# Altium schematic symbol library Miscellaneous.SchLib: 57 symbols
Pins are listed as number, name and electrical type; pins without a type are passive.

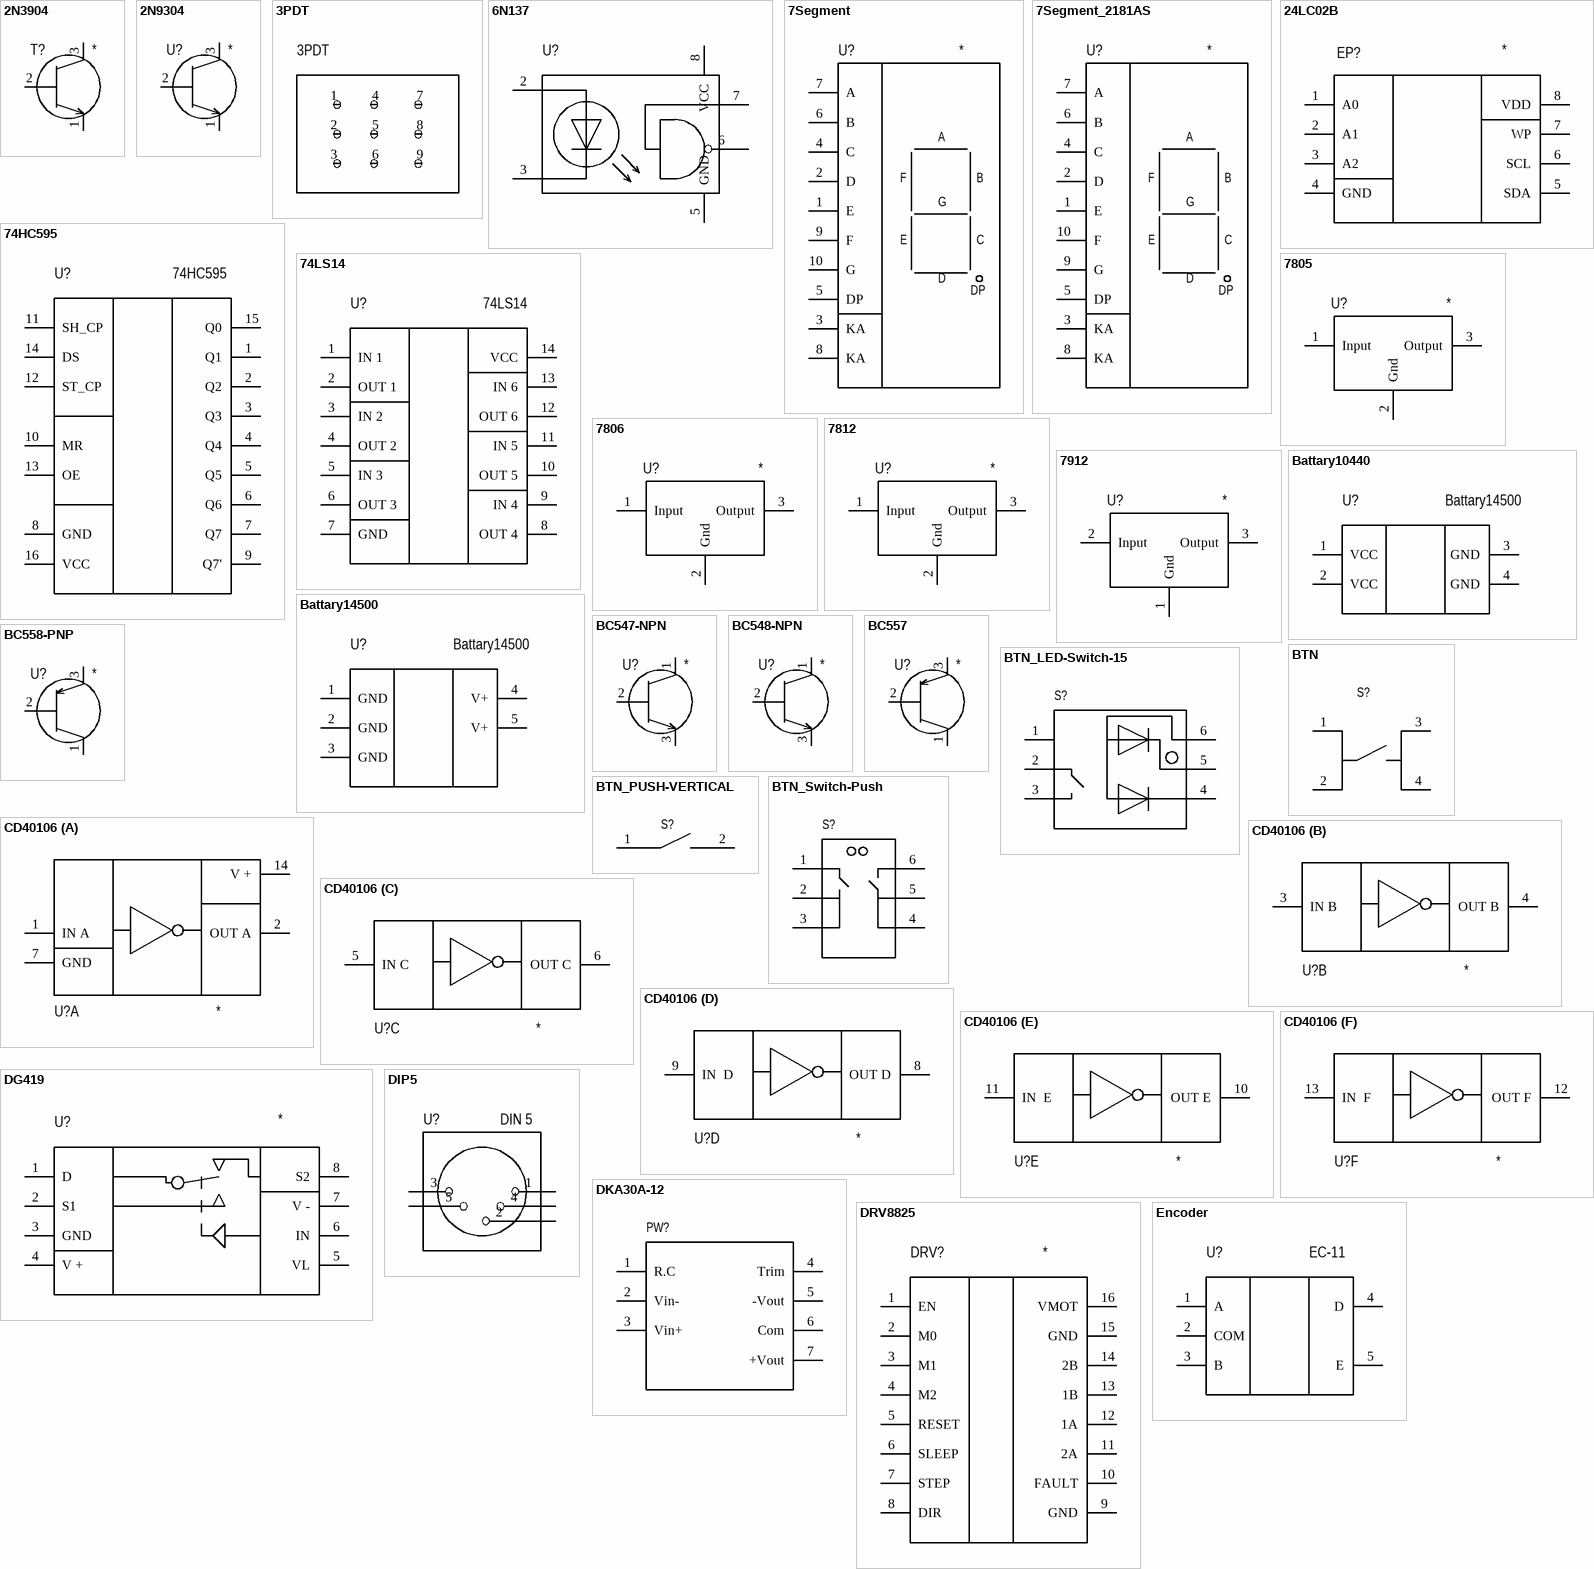
[diagram p0: symbols 2N3904 to Encoder]

## 2N3904
designator T?
Value: *
footprint TO-92 - NEW
pins: 1 E, 2 B, 3 C

## 2N9304
designator U?
Value: *
footprint TO-92
pins: 1 E, 2 B, 3 C

## 3PDT
designator 3PDT  (value not drawn)
footprint 3PDT
pins: 1 Gate, 2 Gate, 3 CV, 4 CV, 5 +5V, 6 +5V, 7 +12V, 8 +12V, 9 0V

## 6N137
designator U?
Value: 6N137
footprint DIP_8
pins: 2, 3, 5 GND, 6, 7, 8 VCC

## 7Segment
designator U?
Value: *
footprint 7Seg_5161AS
pins: 1 E, 2 D, 3 KA, 4 C, 5 DP, 6 B, 7 A, 8 KA, 9 F, 10 G

## 7Segment_2181AS
designator U?
Value: *
footprint 7SEG_2181AS
pins: 1 E, 2 D, 3 KA, 4 C, 5 DP, 6 B, 7 A, 8 KA, 9 G, 10 F

## 24LC02B
designator EP?
Value: *
footprint DIP_8
footprint SO-8
pins: 1 A0, 2 A1, 3 A2, 4 GND, 5 SDA, 6 SCL, 7 WP, 8 VDD

## 74HC595
designator U?
footprint SO-16
footprint SO-16 - bottom
pins: 1 Q1, 2 Q2, 3 Q3, 4 Q4, 5 Q5, 6 Q6, 7 Q7, 8 GND, 9 Q7', 10 MR, 11 SH_CP, 12 ST_CP, 13 OE, 14 DS, 15 Q0, 16 VCC

## 74LS14
designator U?
Value: 74LS14
footprint DIP_14
footprint DIP_14 - PANEL
pins: 1 IN 1, 2 OUT 1, 3 IN 2, 4 OUT 2, 5 IN 3, 6 OUT 3, 7 GND, 8 OUT 4, 9 IN 4, 10 OUT 5, 11 IN 5, 12 OUT 6, 13 IN 6, 14 VCC

## 7805
designator U?
Value: *
footprint 7805_hor_rad
footprint SOT-89
footprint SOT-89 - BOTTOM
footprint TO-252AA
footprint TO-252AA - BOTTOM
pins: 1 Input, 2 Gnd, 3 Output

## 7806
designator U?
Value: *
footprint TO-220RADUATOR
pins: 1 Input, 2 Gnd, 3 Output

## 7812
designator U?
Value: *
footprint 7812_hor_rad
footprint 7812_hor_rad - h20
pins: 1 Input, 2 Gnd, 3 Output

## 7912
designator U?
Value: *
footprint 7812_hor_rad
footprint 7812_hor_rad - h20
pins: 1 Gnd, 2 Input, 3 Output

## Battary10440
designator U?, comment Battary14500
Value: Battary14500
footprint Battary10440PLS
footprint Battary10440PLS-MIN
pins: 1 VCC, 2 VCC, 3 GND, 4 GND

## Battary14500
designator U?
Value: Battary14500
footprint Battary14500PLS
pins: 1 GND, 2 GND, 3 GND, 4 V+, 5 V+

## BC547-NPN
designator U?
Value: *
footprint TO-92 - NEW
pins: 1 C, 2 B, 3 E

## BC548-NPN
designator U?
Value: *
footprint TO-92 - NEW
pins: 1 C, 2 B, 3 E

## BC557
designator U?
Value: *
footprint TO-92 - NEW
pins: 1 E, 2 B, 3 C

## BC558-PNP
designator U?
Value: *
footprint TO-92 - NEW
pins: 1 E, 2 B, 3 C

## BTN
designator S?  (value not drawn)
footprint BUTTON-DIP
footprint BUTTON-DIP12-12_10mm
footprint BUTTON-DIP12-12_15mm
pins: 1, 2 1, 3 1, 4 1

## BTN_LED-Switch-15
designator S?  (value not drawn)
footprint LED-SWITCH-15
pins: 1, 2 1, 3 1, 4 1, 5 1, 6 1

## BTN_PUSH-VERTICAL
designator S?  (value not drawn)
footprint BUTTON-DIP-VERTICAL
pins: 1, 2 1

## BTN_Switch-Push
designator S?  (value not drawn)
footprint BUTTON-DIP-PUSH
footprint BUTTON-DIP-PUSH-CAP
pins: 1, 2 1, 3 1, 4 1, 5 1, 6 1

## CD40106
designator U?
Value: *
footprint DIP_14
footprint SO-14
part A pins: 1 IN A, 2 OUT A, 7 GND, 14 V +
part B pins: 3 IN B, 4 OUT B
part C pins: 5 IN С, 6 OUT С
part D pins: 8 OUT D, 9 IN  D
part E pins: 10 OUT E, 11 IN  E
part F pins: 12 OUT F, 13 IN  F

## DG419
designator U?
Value: *
footprint DIP_8
footprint SO-8
pins: 1 D, 2 S1, 3 GND, 4 V +, 5 VL, 6 IN, 7 V -, 8 S2

## DIP5
designator U?, comment DIN 5
Value: DIN 5
footprint Din_5
pins: 1 6, 2 4, 3 8, 4 5, 5 7

## DKA30A-12
designator PW?  (value not drawn)
footprint DKA30A-12
pins: 1 R.C, 2 Vin-, 3 Vin+, 4 Trim, 5 -Vout, 6 Com, 7 +Vout

## DRV8825
designator DRV?
Value: *
footprint DRV8825
pins: 1 EN, 2 M0, 3 M1, 4 M2, 5 RESET, 6 SLEEP, 7 STEP, 8 DIR, 9 GND, 10 FAULT, 11 2A, 12 1A, 13 1B, 14 2B, 15 GND, 16 VMOT

## Encoder
designator U?, comment EC-11
VAlue: EC-11
footprint ENCODER
footprint ENCODER2
pins: 1 A, 2 COM, 3 B, 4 D, 5 E

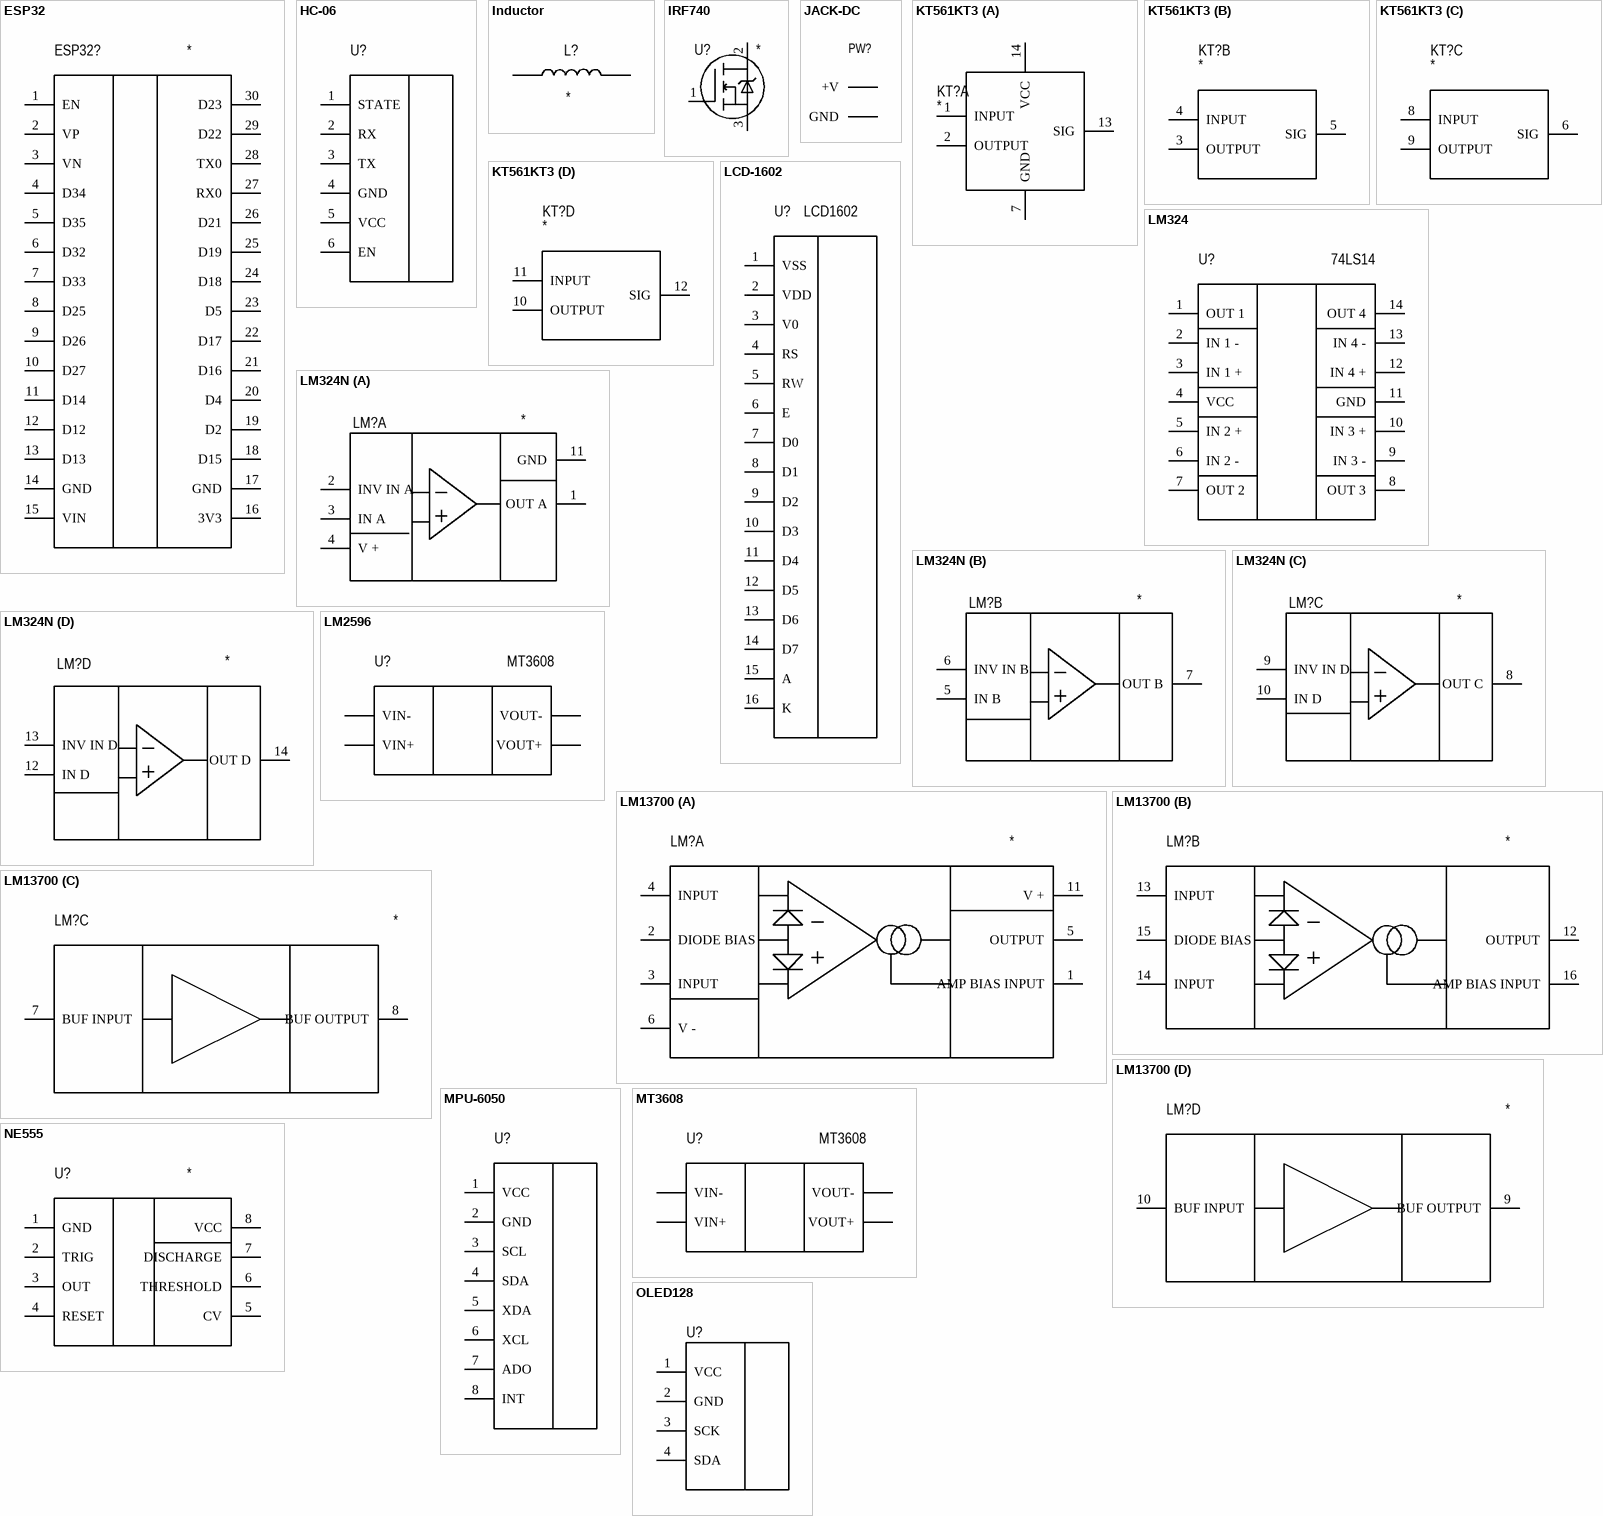
[diagram p1: symbols ESP32 to OLED128]

## ESP32
designator ESP32?
Value: *
footprint ESP32
pins: 1 EN, 2 VP, 3 VN, 4 D34, 5 D35, 6 D32, 7 D33, 8 D25, 9 D26, 10 D27, 11 D14, 12 D12, 13 D13, 14 GND, 15 VIN, 16 3V3, 17 GND, 18 D15, 19 D2, 20 D4, 21 D16, 22 D17, 23 D5, 24 D18, 25 D19, 26 D21, 27 RX0, 28 TX0, 29 D22, 30 D23

## HC-06
designator U?  (value not drawn)
footprint HC-06
pins: 1 STATE, 2 RX, 3 TX, 4 GND, 5 VCC, 6 EN

## Inductor
designator L?
Value: *; Manufacture: *; Case: *; Model: *; HelpURL: *
footprint Inductor-D8-H11-P5
footprint Inductor-SMD-12_7
pins: 1, 2

## IRF740
designator U?
Value: *
footprint TO-220AB
pins: 1 G, 2 D, 3 S

## JACK-DC
designator PW?  (value not drawn)
footprint JACK-DC
pins: 1 +V, 2 GND

## KT561KT3
designator KT?
Value: *
footprint DIP_14
footprint SO-14
footprint DIP_14 - PANEL
part A pins: 1 INPUT, 2 OUTPUT, 7 GND, 13 SIG, 14 VCC
part B pins: 3 OUTPUT, 4 INPUT, 5 SIG
part C pins: 6 SIG, 8 INPUT, 9 OUTPUT
part D pins: 10 OUTPUT, 11 INPUT, 12 SIG

## LCD-1602
designator U?, comment LCD1602
Value: LCD1602
footprint LCD-1602_PBS
pins: 1 VSS, 2 VDD, 3 V0, 4 RS, 5 RW, 6 E, 7 D0, 8 D1, 9 D2, 10 D3, 11 D4, 12 D5, 13 D6, 14 D7, 15 A, 16 K

## LM324
designator U?, comment 74LS14
Value: 74LS14
footprint SO-14
footprint SO-14 - Bottom
pins: 1 OUT 1, 2 IN 1 -, 3 IN 1 +, 4 VCC, 5 IN 2 +, 6 IN 2 -, 7 OUT 2, 8 OUT 3, 9 IN 3 -, 10 IN 3 +, 11 GND, 12 IN 4 +, 13 IN 4 -, 14 OUT 4

## LM324N
designator LM?
Value: *
footprint DIP_14
footprint SO-14
part A pins: 1 OUT A, 2 INV IN A, 3 IN A, 4 V +, 11 GND
part B pins: 5 IN B, 6 INV IN B, 7 OUT B
part C pins: 8 OUT C, 9 INV IN D, 10 IN D
part D pins: 12 IN D, 13 INV IN D, 14 OUT D

## LM2596
designator U?, comment MT3608
Value: MT3608
footprint LM2596
pins: 1 VIN+, 2 VIN-, 3 VOUT-, 4 VOUT+

## LM13700
designator LM?
Value: *
footprint SO-16
part A pins: 1 AMP BIAS INPUT, 2 DIODE BIAS, 3 INPUT, 4 INPUT, 5 OUTPUT, 6 V -, 11 V +
part B pins: 12 OUTPUT, 13 INPUT, 14 INPUT, 15 DIODE BIAS, 16 AMP BIAS INPUT
part C pins: 7 BUF INPUT, 8 BUF OUTPUT
part D pins: 9 BUF OUTPUT, 10 BUF INPUT

## MPU-6050
designator U?  (value not drawn)
footprint MPU-6050
pins: 1 VCC, 2 GND, 3 SCL, 4 SDA, 5 XDA, 6 XCL, 7 ADO, 8 INT

## MT3608
designator U?
Value: MT3608
footprint MT3608
pins: 1 VIN-, 2 VIN+, 3 VOUT+, 4 VOUT-

## NE555
designator U?
Value: *
footprint DIP_8
pins: 1 GND, 2 TRIG, 3 OUT, 4 RESET, 5 CV, 6 THRESHOLD, 7 DISCHARGE, 8 VCC

## OLED128
designator U?  (value not drawn)
footprint OLED128-64
pins: 1 VCC, 2 GND, 3 SCK, 4 SDA

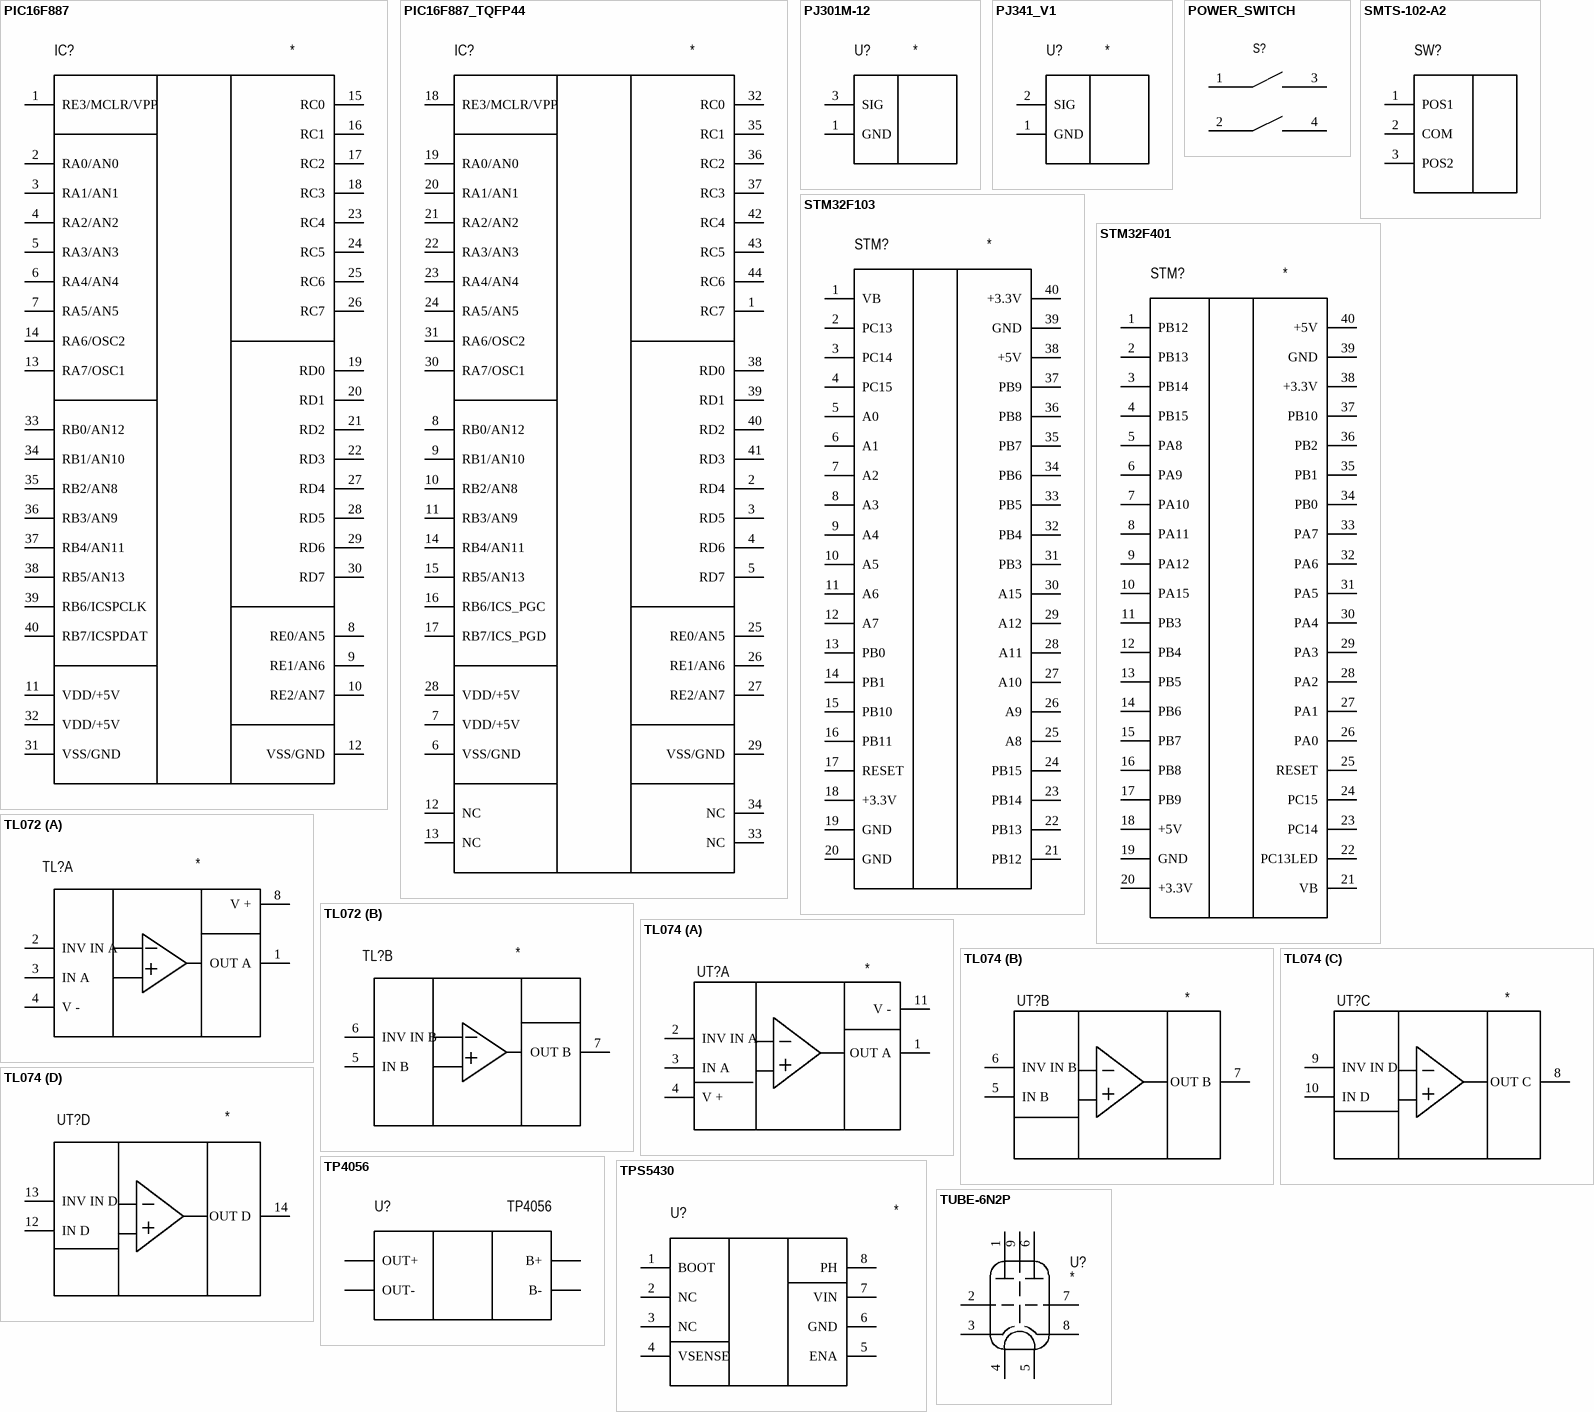
[diagram p2: symbols PIC16F887 to TUBE-6N2P]

## PIC16F887
designator IC?
Value: *
footprint DIP_40
pins: 1 RE3/MCLR/VPP, 2 RA0/AN0, 3 RA1/AN1, 4 RA2/AN2, 5 RA3/AN3, 6 RA4/AN4, 7 RA5/AN5, 8 RE0/AN5, 9 RE1/AN6, 10 RE2/AN7, 11 VDD/+5V, 12 VSS/GND, 13 RA7/OSC1, 14 RA6/OSC2, 15 RC0, 16 RC1, 17 RC2, 18 RC3, 19 RD0, 20 RD1, 21 RD2, 22 RD3, 23 RC4, 24 RC5, 25 RC6, 26 RC7, 27 RD4, 28 RD5, 29 RD6, 30 RD7, 31 VSS/GND, 32 VDD/+5V, 33 RB0/AN12, 34 RB1/AN10, 35 RB2/AN8, 36 RB3/AN9, 37 RB4/AN11, 38 RB5/AN13, 39 RB6/ICSPCLK, 40 RB7/ICSPDAT

## PIC16F887_TQFP44
designator IC?
Value: *
footprint TQFP44
footprint TQFP44 - BOTTOM
pins: 1 RC7, 2 RD4, 3 RD5, 4 RD6, 5 RD7, 6 VSS/GND, 7 VDD/+5V, 8 RB0/AN12, 9 RB1/AN10, 10 RB2/AN8, 11 RB3/AN9, 12 NC, 13 NC, 14 RB4/AN11, 15 RB5/AN13, 16 RB6/ICS_PGC, 17 RB7/ICS_PGD, 18 RE3/MCLR/VPP, 19 RA0/AN0, 20 RA1/AN1, 21 RA2/AN2, 22 RA3/AN3, 23 RA4/AN4, 24 RA5/AN5, 25 RE0/AN5, 26 RE1/AN6, 27 RE2/AN7, 28 VDD/+5V, 29 VSS/GND, 30 RA7/OSC1, 31 RA6/OSC2, 32 RC0, 33 NC, 34 NC, 35 RC1, 36 RC2, 37 RC3, 38 RD0, 39 RD1, 40 RD2, 41 RD3, 42 RC4, 43 RC5, 44 RC6

## PJ301M-12
designator U?
Value: *
footprint PJ301M
footprint TRS-6_35
pins: 1 GND, 3 SIG

## PJ341_V1
designator U?
Value: *
footprint PJ341_V1
pins: 1 GND, 2 SIG

## POWER_SWITCH
designator S?  (value not drawn)
footprint SwitchPower
pins: 1, 2 1, 3 1, 4 1

## SMTS-102-A2
designator SW?  (value not drawn)
footprint SMTS-102-A2
footprint MTS-102-C4
footprint SMTS-103-C3
pins: 1 POS1, 2 COM, 3 POS2

## STM32F103
designator STM?
Value: *
footprint STM32BluePill
pins: 1 VB, 2 PC13, 3 PC14, 4 PC15, 5 A0, 6 A1, 7 A2, 8 A3, 9 A4, 10 A5, 11 A6, 12 A7, 13 PB0, 14 PB1, 15 PB10, 16 PB11, 17 RESET, 18 +3.3V, 19 GND, 20 GND, 21 PB12, 22 PB13, 23 PB14, 24 PB15, 25 A8, 26 A9, 27 A10, 28 A11, 29 A12, 30 A15, 31 PB3, 32 PB4, 33 PB5, 34 PB6, 35 PB7, 36 PB8, 37 PB9, 38 +5V, 39 GND, 40 +3.3V

## STM32F401
designator STM?
Value: *
footprint STM32BlackPill
pins: 1 PB12, 2 PB13, 3 PB14, 4 PB15, 5 PA8, 6 PA9, 7 PA10, 8 PA11, 9 PA12, 10 PA15, 11 PB3, 12 PB4, 13 PB5, 14 PB6, 15 PB7, 16 PB8, 17 PB9, 18 +5V, 19 GND, 20 +3.3V, 21 VB, 22 PC13LED, 23 PC14, 24 PC15, 25 RESET, 26 PA0, 27 PA1, 28 PA2, 29 PA3, 30 PA4, 31 PA5, 32 PA6, 33 PA7, 34 PB0, 35 PB1, 36 PB2, 37 PB10, 38 +3.3V, 39 GND, 40 +5V

## TL072
designator TL?
Value: *
footprint SO-8 - Bottom
footprint SO-8
footprint DIP_8 - panel
part A pins: 1 OUT A, 2 INV IN A, 3 IN A, 4 V -, 8 V +
part B pins: 5 IN B, 6 INV IN B, 7 OUT B

## TL074
designator UT?
Value: *
footprint DIP_14
footprint SO-14
part A pins: 1 OUT A, 2 INV IN A, 3 IN A, 4 V +, 11 V -
part B pins: 5 IN B, 6 INV IN B, 7 OUT B
part C pins: 8 OUT C, 9 INV IN D, 10 IN D
part D pins: 12 IN D, 13 INV IN D, 14 OUT D

## TP4056
designator U?
Value: TP4056
footprint TP4056 - correct
pins: 1 OUT+, 2 OUT-, 3 B+, 4 B-

## TPS5430
designator U?
Value: *
footprint SO-8
pins: 1 BOOT, 2 NC, 3 NC, 4 VSENSE, 5 ENA, 6 GND, 7 VIN, 8 PH

## TUBE-6N2P
designator U?
Value: *
footprint TUBE-6N2P
footprint TUBE-6N2P-EV
pins: 1 C, 2 B, 3 E, 4 E, 5 E, 6 C, 7 B, 8 E, 9 C